# Altium schematic symbol library Schlib_Fontes_Chaveadas.SchLib: 28 symbols
Pins are listed as number, name and electrical type; pins without a type are passive.

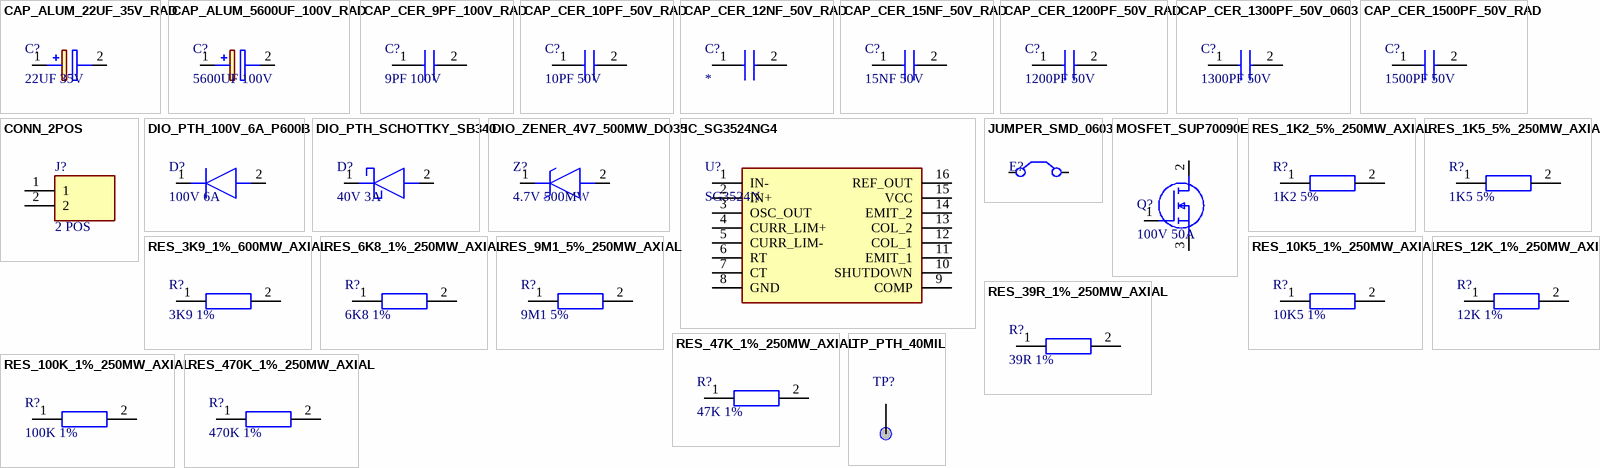
[diagram p0: symbols CAP_ALUM_22UF_35V_RAD to TP_PTH_40MIL]

## CAP_ALUM_22UF_35V_RAD
designator C?, comment 22UF 35V
CAP ALUM POLY 22UF 20% 35V T/H
footprint CAP_RAD_D6MM3_L2MM5 (Size / Dimension: 0.248" Dia (6.30mm))
pins: 1 +, 2 -

## CAP_ALUM_5600UF_100V_RAD
designator C?, comment 5600UF 100V
CAP ALUM 5600UF 20% 100V SNAP
footprint CAP_RAD_D35MM_L10MM (Size / Dimension: 1.378" Dia (35.00mm))
pins: 1 +, 2 -

## CAP_CER_9PF_100V_RAD
designator C?, comment 9PF 100V
CAP CER 9PF 100V C0G RADIAL
footprint CAP_RAD_4X2MM5 (Size / Dimension: 0.157" L x 0.098" W (4.00mm x 2.50mm))
pins: 1, 2

## CAP_CER_10PF_50V_RAD
designator C?, comment 10PF 50V
CAP CER 10PF 50V C0G RADIAL
footprint CAP_RAD_4X2MM5 (Size / Dimension: 0.157" L x 0.098" W (4.00mm x 2.50mm))
pins: 1, 2

## CAP_CER_12NF_50V_RAD
designator C?
CAP CER 0.012UF 50V C0G/NP0 RAD
footprint CAP_RAD_4X2MM5 (Size / Dimension: 0.157" L x 0.098" W (4.00mm x 2.50mm))
pins: 1, 2

## CAP_CER_15NF_50V_RAD
designator C?, comment 15NF 50V
CAP CER 0.015UF 50V X7R RADIAL
footprint CAP_RAD_4X2MM5 (Size / Dimension: 0.157" L x 0.098" W (4.00mm x 2.50mm))
pins: 1, 2

## CAP_CER_1200PF_50V_RAD
designator C?, comment 1200PF 50V
CAP CER 1200PF 50V C0G RADIAL
footprint CAP_RAD_4X2MM5 (Size / Dimension: 0.157" L x 0.098" W (4.00mm x 2.50mm))
pins: 1, 2

## CAP_CER_1300PF_50V_0603
designator C?, comment 1300PF 50V
CAP CER 1300PF 50V C0G/NP0 0603; Manufacturer_Name: Murata Electronics; Manufacturer_Part_Number: GRM1885C1H132JA01D; Datasheet Link: https://datasheet.datasheetarchive.com/originals/distributors/Datasheets_SAMA/ec4f1577dddcc7a13ddad897a28002d3.pdf; Height: 0.9mm; Mouser Part Number: 81-GRM1885C1H132JA01; Mouser Price/Stock: https://www.mouser.com/Search/Refine.aspx?Keyword=81-GRM1885C1H132JA01; Arrow Part Number: GRM1885C1H132JA01D; Arrow Price/Stock: https://www.arrow.com/en/products/grm1885c1h132ja01d/murata-manufacturing?region=nac
footprint CAP_SMD_0603 (0.063" L x 0.031" W (1.60mm x 0.80mm))
pins: 1, 2

## CAP_CER_1500PF_50V_RAD
designator C?, comment 1500PF 50V
CAP CER 1500PF 50V C0G RADIAL
footprint CAP_RAD_4X2MM5 (Size / Dimension: 0.157" L x 0.098" W (4.00mm x 2.50mm))
pins: 1, 2

## CONN_2POS
designator J?, comment 2 POS
CONN 2 POS KRE; Manufacturer_Name: Handson Technology; Manufacturer_Part_Number: KF301-2P; Height: 10mm; DataSheet: http://www.handsontec.com/dataspecs/terminal%20block-5mm.pdf
footprint CONN_KF3012P
pins: 1, 2

## DIO_PTH_100V_6A_P600B
designator D?, comment 100V 6A
DIODE GEN PURP 100V 6A P600
footprint DIO_P600_AXIAL (Package / Case: P600, Axial)
pins: 1 K, 2 A

## DIO_PTH_SCHOTTKY_SB340
designator D?, comment 40V 3A
DIODE SCHOTTKY 40V 3A DO201AD
footprint DIO_SCHOTTKY_DO201AD (Package / Case: DO-201AD, Axial)
pins: 1 K, 2 A

## DIO_ZENER_4V7_500MW_DO35
designator Z?, comment 4.7V 500MW
DIODE ZENER 4.7V 500MW DO35
footprint DIO_ZENER_DO35 (Package / Case: DO-204AH, DO-35, Axial)
pins: 1 K, 2 A

## IC_SG3524NG4
designator U?, comment SG3524N
IC REG CTRLR MULT TOPOLOGY 16DIP; Manufacturer_Name: Texas Instruments; Manufacturer_Part_Number: SG3524NG4; Datasheet Link: http://www.ti.com/general/docs/suppproductinfo.tsp?distId=10&gotoUrl=http%3A%2F%2Fwww.ti.com%2Flit%2Fgpn%2Fsg2524; Height: 5.08mm
footprint IC_16DIP (Package / Case: 16-DIP (0.300", 7.62mm))
pins: 1 IN-, 2 IN+, 3 OSC_OUT, 4 CURR_LIM+, 5 CURR_LIM-, 6 RT, 7 CT, 8 GND, 9 COMP, 10 SHUTDOWN, 11 EMIT_1, 12 COL_1, 13 COL_2, 14 EMIT_2, 15 VCC, 16 REF_OUT

## JUMPER_SMD_0603
designator E?  (value not drawn)  (no BOM)
footprint JUMPER_SMD_5MM (SMD_JUMPER_5MM)
pins: 1 C1, 2 C2

## MOSFET_SUP70090E
designator Q?, comment 100V 50A
MOSFET N-CH 100V 50A TO220AB; Manufacturer_Name: Vishay; Manufacturer_Part_Number: SUP70090E-GE3; Datasheet Link: https://www.vishay.com/docs/65436/sup70090e.pdf; Height: 4.65mm; Mouser Part Number: 78-SUP70090E-GE3; Mouser Price/Stock: https://www.mouser.com/Search/Refine.aspx?Keyword=78-SUP70090E-GE3
footprint MOSFET_TO220AB (Package / Case: TO-220-3)
pins: 1 G, 2 D, 3 S

## RES_1K2_5%_250MW_AXIAL
designator R?, comment 1K2 5%
RES 1.2K OHM 5% 1/4W AXIAL; Manufacturer_Name: KEMET; Manufacturer_Part_Number: CFR-25JB-52-1K2; Datasheet Link: https://datasheet.datasheetarchive.com/originals/distributors/Datasheets_SAMA/cf5c7c7b14e59499e9125003e6ee5ce2.pdf; Mouser Part Number: 603-CFR-25JB-52-1K2; Mouser Price/Stock: https://www.mouser.co.uk/ProductDetail/YAGEO/CFR-25JB-52-1K2?qs=oypCK0zG326dVhO%252BIRR68Q%3D%3D; Arrow Part Number: CFR-25JB-52-1K2; Arrow Price/Stock: https://www.arrow.com/en/products/cfr-25jb-52-1k2/yageo?region=nac
footprint RES_PTH_AXIAL_250MW (0.094" Dia x 0.248" L (2.40mm x 6.30mm))
pins: 1, 2

## RES_1K5_5%_250MW_AXIAL
designator R?, comment 1K5 5%
RES 1.5K OHM 5% 1/4W AXIAL
footprint RES_PTH_AXIAL_250MW (0.094" Dia x 0.248" L (2.40mm x 6.30mm))
pins: 1, 2

## RES_3K9_1%_600MW_AXIAL
designator R?, comment 3K9 1%
RES 3.9K OHM 1% 0.6W AXIAL
footprint RES_PTH_AXIAL_250MW (0.094" Dia x 0.248" L (2.40mm x 6.30mm))
pins: 1, 2

## RES_6K8_1%_250MW_AXIAL
designator R?, comment 6K8 1%
RES 6.8K OHM 1% 1/4W AXIAL
footprint RES_PTH_AXIAL_250MW (0.094" Dia x 0.248" L (2.40mm x 6.30mm))
pins: 1, 2

## RES_9M1_5%_250MW_AXIAL
designator R?, comment 9M1 5%
RES 9.1M OHM 5% 1/4W AXIAL
footprint RES_PTH_AXIAL_250MW (0.094" Dia x 0.248" L (2.40mm x 6.30mm))
pins: 1, 2

## RES_10K5_1%_250MW_AXIAL
designator R?, comment 10K5 1%
RES 10.5K OHM 1% 1/4W AXIAL
footprint RES_PTH_AXIAL_250MW (0.094" Dia x 0.248" L (2.40mm x 6.30mm))
pins: 1, 2

## RES_12K_1%_250MW_AXIAL
designator R?, comment 12K 1%
RES 12K OHM 1% 1/4W AXIAL
footprint RES_PTH_AXIAL_250MW (0.094" Dia x 0.248" L (2.40mm x 6.30mm))
pins: 1, 2

## RES_39R_1%_250MW_AXIAL
designator R?, comment 39R 1%
RES 39 OHM 1% 1/4W AXIAL
footprint RES_PTH_AXIAL_250MW (0.094" Dia x 0.248" L (2.40mm x 6.30mm))
pins: 1, 2

## RES_47K_1%_250MW_AXIAL
designator R?, comment 47K 1%
RES 47K OHM 1% 1/4W AXIAL
footprint RES_PTH_AXIAL_250MW (0.094" Dia x 0.248" L (2.40mm x 6.30mm))
pins: 1, 2

## RES_100K_1%_250MW_AXIAL
designator R?, comment 100K 1%
RES 100K OHM 1% 1/4W AXIAL
footprint RES_PTH_AXIAL_250MW (0.094" Dia x 0.248" L (2.40mm x 6.30mm))
pins: 1, 2

## RES_470K_1%_250MW_AXIAL
designator R?, comment 470K 1%
RES 470K OHM 1% 1/4W AXIAL
footprint RES_PTH_AXIAL_250MW (0.094" Dia x 0.248" L (2.40mm x 6.30mm))
pins: 1, 2

## TP_PTH_40MIL
designator TP?, comment TP  (value not drawn)
Test Point, True Hole; DkPart#: 36-5001-ND; oManufacturer: Keystone Electronics; oPart#: 5001; DkMOP: 0,40; DkMOQ: 1; DkMSRP: 0,30150; DkMSRQ: 100; oDataSheet: http://www.keyelco.com/userAssets/file/M60-2p60.pdf
footprint TP_TRUE_HOLE_P102
pins: 1